# EAGLE library part MC1458IN (library ST_Microelctronics_By_element14_Batch_1)
OPERATIONAL AMPLIFIERS
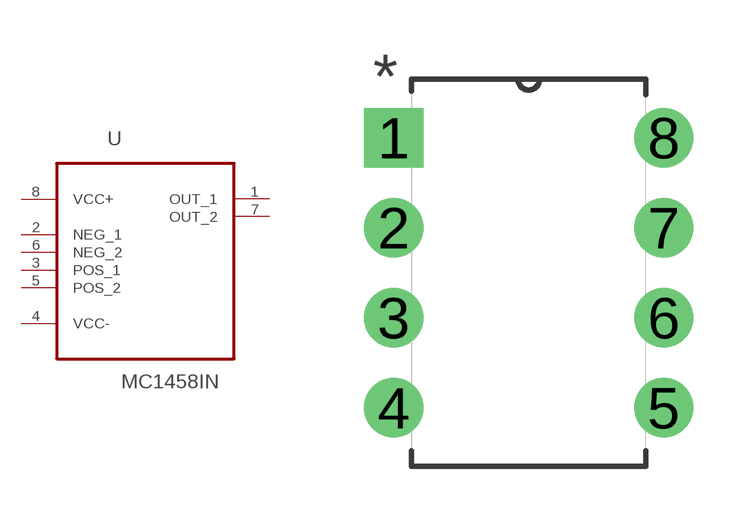
[diagram p271: symbol with the pads of DIP254P762X508-8; footprint DIP254P762X508-8]

Designator prefix U

## MC1458IN (MPN: MC1458IN; OC_FARNELL: 1263044; OC_NEWARK: 89K1422; PACKAGE: DIP-8; SUPPLIER: STMICROELECTRONICS)  [DIP254P762X508-8]
1  OUT_1  out
2  NEG_1  in
3  POS_1  in
4  VCC-  pwr
5  POS_2  in
6  NEG_2  in
7  OUT_2  out
8  VCC+  pwr

## Footprint DIP254P762X508-8 (pad centres in mm)
drill 1.118 square: 1 -7.62,7.62
drill 1.118: 2 -7.62,5.08; 3 -7.62,2.54; 4 -7.62,0; 5 0,0; 6 0,2.54; 7 0,5.08; 8 0,7.62